# Altium schematic symbol library SCH - POWER - SWITCHMODE - TI TPS613221ADBVR.SchLib: 1 symbol
Pins are listed as number, name and electrical type; pins without a type are passive.

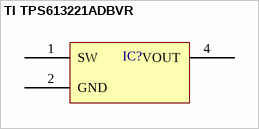
[diagram p0: symbol TI TPS613221ADBVR]

## TI TPS613221ADBVR
designator IC?
pins: 1 SW, 2 GND, 4 VOUT